# Altium footprint library davicom.PCBLIB: 1 footprints
Each footprint in its own frame and in the unit in brackets; x right, y up, seen from the top. Pads: shape width x height; smd on the part's side, far side on the other; paste and mask are expansions set on the pad; w line width, h text height; cw(c..) or ccw(c..) is an arc to the next point about the centre after c.
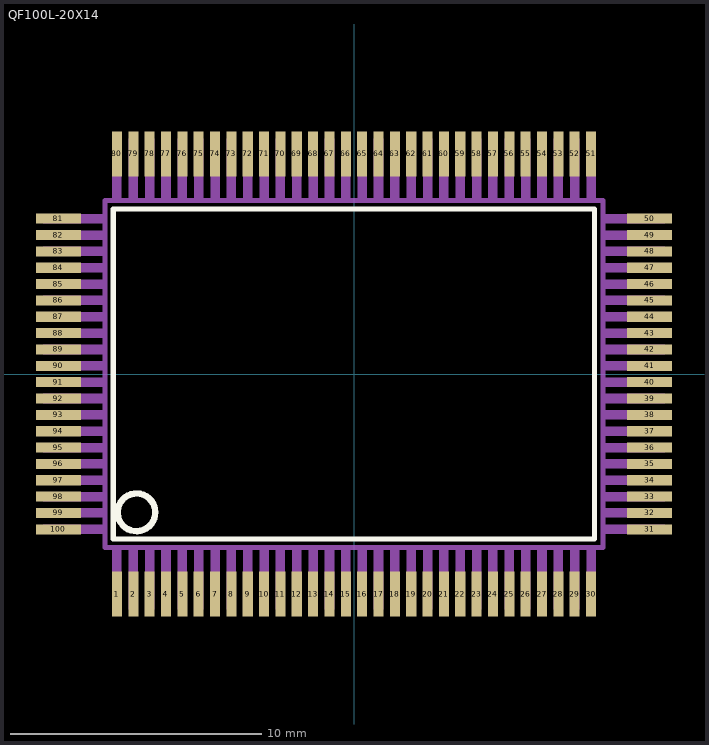
[diagram p0: the footprint, top view; thin cyan lines are the x and y axes]

## QF100L-20X14 [mm]
pads (100):
  rect 0.4x1.8 smd: 1(-9.425,-8.75) 2(-8.775,-8.75) 3(-8.125,-8.75) 4(-7.475,-8.75) 5(-6.825,-8.75) 6(-6.175,-8.75) 7(-5.525,-8.75) 8(-4.875,-8.75) 9(-4.225,-8.75) 10(-3.575,-8.75) 11(-2.925,-8.75) 12(-2.275,-8.75) 13(-1.625,-8.75) 14(-0.975,-8.75) 15(-0.325,-8.75) 16(0.325,-8.75) 17(0.975,-8.75) 18(1.625,-8.75) 19(2.275,-8.75) 20(2.925,-8.75) 21(3.575,-8.75) 22(4.225,-8.75) 23(4.875,-8.75) 24(5.525,-8.75) 25(6.175,-8.75) 26(6.825,-8.75) 27(7.475,-8.75) 28(8.125,-8.75) 29(8.775,-8.75) 30(9.425,-8.75) 51(9.425,8.75) 52(8.775,8.75) 53(8.125,8.75) 54(7.475,8.75) 55(6.825,8.75) 56(6.175,8.75) 57(5.525,8.75) 58(4.875,8.75) 59(4.225,8.75) 60(3.575,8.75) 61(2.925,8.75) 62(2.275,8.75) 63(1.625,8.75) 64(0.975,8.75) 65(0.325,8.75) 66(-0.325,8.75) 67(-0.975,8.75) 68(-1.625,8.75) 69(-2.275,8.75) 70(-2.925,8.75) 71(-3.575,8.75) 72(-4.225,8.75) 73(-4.875,8.75) 74(-5.525,8.75) 75(-6.175,8.75) 76(-6.825,8.75) 77(-7.475,8.75) 78(-8.125,8.75) 79(-8.775,8.75) 80(-9.425,8.75)
  rect 1.8x0.4 smd: 31(11.75,-6.175) 32(11.75,-5.525) 33(11.75,-4.875) 34(11.75,-4.225) 35(11.75,-3.575) 36(11.75,-2.925) 37(11.75,-2.275) 38(11.75,-1.625) 39(11.75,-0.975) 40(11.75,-0.325) 41(11.75,0.325) 42(11.75,0.975) 43(11.75,1.625) 44(11.75,2.275) 45(11.75,2.925) 46(11.75,3.575) 47(11.75,4.225) 48(11.75,4.875) 49(11.75,5.525) 50(11.75,6.175) 81(-11.75,6.175) 82(-11.75,5.525) 83(-11.75,4.875) 84(-11.75,4.225) 85(-11.75,3.575) 86(-11.75,2.925) 87(-11.75,2.275) 88(-11.75,1.625) 89(-11.75,0.975) 90(-11.75,0.325) 91(-11.75,-0.325) 92(-11.75,-0.975) 93(-11.75,-1.625) 94(-11.75,-2.275) 95(-11.75,-2.925) 96(-11.75,-3.575) 97(-11.75,-4.225) 98(-11.75,-4.875) 99(-11.75,-5.525) 100(-11.75,-6.175)
Top Overlay:
  circle w0.254: c-8.65,-5.5 r0.75
  lines w0.203: -9.57,-6.56 9.56,-6.56 9.56,6.56 -9.57,6.56 -9.57,-6.56
Mechanical 16:
  rectangle: -9.615,-9.37 -9.235,-7
  rectangle: 10,-6.365 12.37,-5.985
  rectangle: -8.965,-9.37 -8.585,-7
  rectangle: -8.315,-9.37 -7.935,-7
  rectangle: -7.665,-9.37 -7.285,-7
  rectangle: -7.015,-9.37 -6.635,-7
  rectangle: -6.365,-9.37 -5.985,-7
  rectangle: -5.715,-9.37 -5.335,-7
  rectangle: -5.065,-9.37 -4.685,-7
  rectangle: -4.415,-9.37 -4.035,-7
  rectangle: -3.765,-9.37 -3.385,-7
  rectangle: -3.115,-9.37 -2.735,-7
  rectangle: -2.465,-9.37 -2.085,-7
  rectangle: -1.815,-9.37 -1.435,-7
  rectangle: -1.165,-9.37 -0.785,-7
  rectangle: -0.515,-9.37 -0.135,-7
  rectangle: 0.135,-9.37 0.515,-7
  rectangle: 0.785,-9.37 1.165,-7
  rectangle: 1.435,-9.37 1.815,-7
  rectangle: 2.085,-9.37 2.465,-7
  rectangle: 2.735,-9.37 3.115,-7
  rectangle: 3.385,-9.37 3.765,-7
  rectangle: 4.035,-9.37 4.415,-7
  rectangle: 4.685,-9.37 5.065,-7
  rectangle: 5.335,-9.37 5.715,-7
  rectangle: 5.985,-9.37 6.365,-7
  rectangle: 6.635,-9.37 7.015,-7
  rectangle: 7.285,-9.37 7.665,-7
  rectangle: 7.935,-9.37 8.315,-7
  rectangle: 8.585,-9.37 8.965,-7
  rectangle: 9.235,-9.37 9.615,-7
  rectangle: 10,-5.715 12.37,-5.335
  rectangle: 10,-5.065 12.37,-4.685
  rectangle: 10,-4.415 12.37,-4.035
  rectangle: 10,-3.765 12.37,-3.385
  rectangle: 10,-3.115 12.37,-2.735
  rectangle: 10,-2.465 12.37,-2.085
  rectangle: 10,-1.815 12.37,-1.435
  rectangle: 10,-1.165 12.37,-0.785
  rectangle: 10,-0.515 12.37,-0.135
  rectangle: 10,0.135 12.37,0.515
  rectangle: 10,0.785 12.37,1.165
  rectangle: 10,1.435 12.37,1.815
  rectangle: 10,2.085 12.37,2.465
  rectangle: 10,2.735 12.37,3.115
  rectangle: 10,3.385 12.37,3.765
  rectangle: 10,4.035 12.37,4.415
  rectangle: 10,4.685 12.37,5.065
  rectangle: 10,5.335 12.37,5.715
  rectangle: 10,5.985 12.37,6.365
  rectangle: 9.235,7 9.615,9.37
  rectangle: 8.585,7 8.965,9.37
  rectangle: 7.935,7 8.315,9.37
  rectangle: 7.285,7 7.665,9.37
  rectangle: 6.635,7 7.015,9.37
  rectangle: 5.985,7 6.365,9.37
  rectangle: 5.335,7 5.715,9.37
  rectangle: 4.685,7 5.065,9.37
  rectangle: 4.035,7 4.415,9.37
  rectangle: 3.385,7 3.765,9.37
  rectangle: 2.735,7 3.115,9.37
  rectangle: 2.085,7 2.465,9.37
  rectangle: 1.435,7 1.815,9.37
  rectangle: 0.785,7 1.165,9.37
  rectangle: 0.135,7 0.515,9.37
  rectangle: -0.515,7 -0.135,9.37
  rectangle: -1.165,7 -0.785,9.37
  rectangle: -1.815,7 -1.435,9.37
  rectangle: -2.465,7 -2.085,9.37
  rectangle: -3.115,7 -2.735,9.37
  rectangle: -3.765,7 -3.385,9.37
  rectangle: -4.415,7 -4.035,9.37
  rectangle: -5.065,7 -4.685,9.37
  rectangle: -5.715,7 -5.335,9.37
  rectangle: -6.365,7 -5.985,9.37
  rectangle: -7.015,7 -6.635,9.37
  rectangle: -7.665,7 -7.285,9.37
  rectangle: -8.315,7 -7.935,9.37
  rectangle: -8.965,7 -8.585,9.37
  rectangle: -9.615,7 -9.235,9.37
  rectangle: -12.37,5.985 -10,6.365
  rectangle: -12.37,5.335 -10,5.715
  rectangle: -12.37,4.685 -10,5.065
  rectangle: -12.37,4.035 -10,4.415
  rectangle: -12.37,3.385 -10,3.765
  rectangle: -12.37,2.735 -10,3.115
  rectangle: -12.37,2.085 -10,2.465
  rectangle: -12.37,1.435 -10,1.815
  rectangle: -12.37,0.785 -10,1.165
  rectangle: -12.37,0.135 -10,0.515
  rectangle: -12.37,-0.515 -10,-0.135
  rectangle: -12.37,-1.165 -10,-0.785
  rectangle: -12.37,-1.815 -10,-1.435
  rectangle: -12.37,-2.465 -10,-2.085
  rectangle: -12.37,-3.115 -10,-2.735
  rectangle: -12.37,-3.765 -10,-3.385
  rectangle: -12.37,-4.415 -10,-4.035
  rectangle: -12.37,-5.065 -10,-4.685
  rectangle: -12.37,-5.715 -10,-5.335
  rectangle: -12.37,-6.365 -10,-5.985
  lines w0.203: -9.9,-6.9 9.9,-6.9 9.9,6.9 -9.9,6.9 -9.9,-6.9